# EAGLE library part MI4605-1YM (library MIC4605)
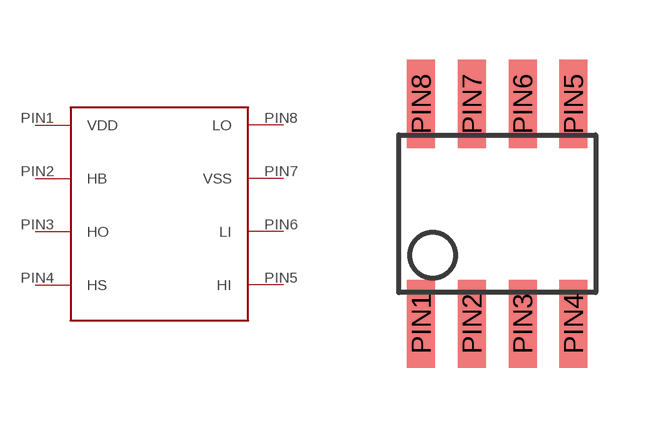
[diagram p0: symbol with the pads of 1YMSOIC; footprint 1YMSOIC]

Designator prefix -

## MI4605-1YM  [1YMSOIC]
PIN1  VDD
PIN2  HB
PIN3  HO
PIN4  HS
PIN5  HI
PIN6  LI
PIN7  VSS
PIN8  LO

## Footprint 1YMSOIC (pad centres in mm)
smd 0.7 x 2.2: PIN1 -1.905,-2.75; PIN2 -0.635,-2.75; PIN3 0.635,-2.75; PIN4 1.905,-2.75; PIN5 1.905,2.75; PIN6 0.635,2.75; PIN7 -0.635,2.75; PIN8 -1.905,2.75